# EAGLE library part ALPHA-16MM-DUAL-POT (library joakim)
Alpha Dual 16mm potentiometer, 6mm shaft
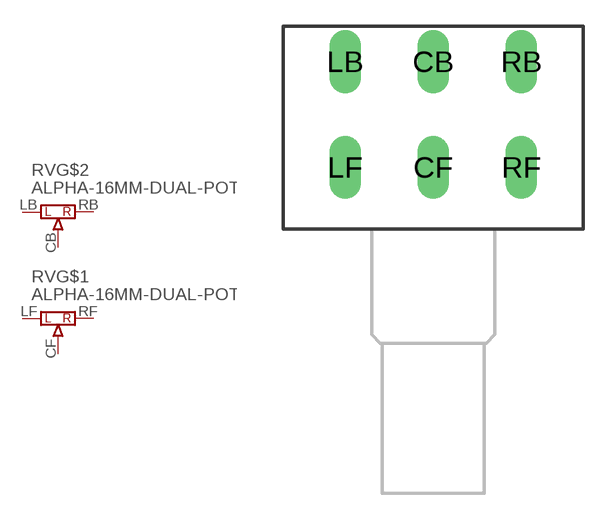
[diagram p50: symbol with the pads of ALPHA-16MM-DUAL-POT-J; footprint ALPHA-16MM-DUAL-POT-J]

Designator prefix RV; gates G$1=POT-J G$2=POT-J

## ALPHA-16MM-DUAL-POT  [ALPHA-16MM-DUAL-POT-J]
CB  G$2:C  pas
CF  G$1:C  pas
LB  G$2:L  pas
LF  G$1:L  pas
RB  G$2:R  pas
RF  G$1:R  pas

## Footprint ALPHA-16MM-DUAL-POT-J (pad centres in mm)
POTENTIOMETER single carbon potentiometer, 16 mm
drill 1.2 long: CB 0,9.5; CF 0,3.5; LB -5,9.5; LF -5,3.5; RB 5,9.5; RF 5,3.5